# Altium footprint library Altium-RADIATOR.PcbLib: 1 footprints
Each footprint in its own frame and in the unit in brackets; x right, y up, seen from the top. Pads: shape width x height; smd on the part's side, far side on the other; paste and mask are expansions set on the pad; w line width, h text height; cw(c..) or ccw(c..) is an arc to the next point about the centre after c.
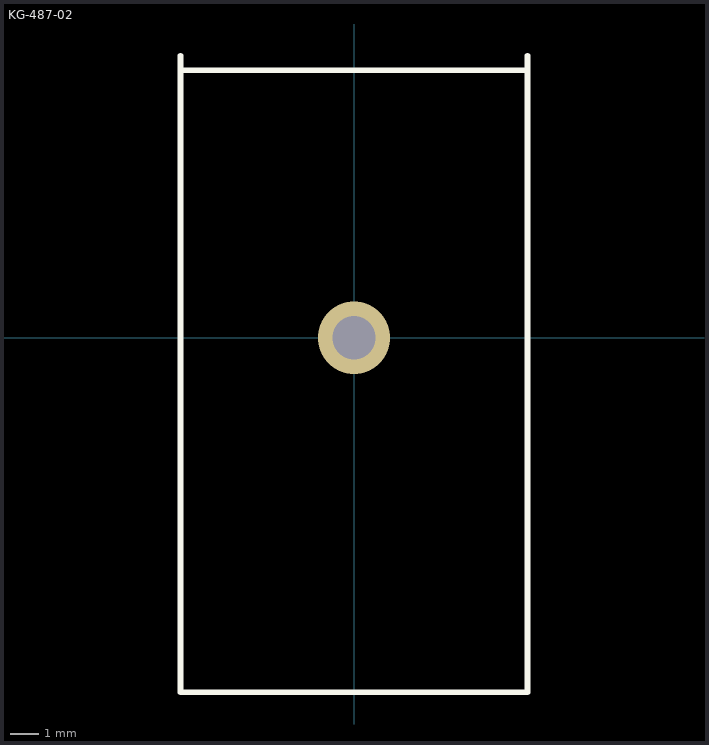
[diagram p0: the footprint, top view; thin cyan lines are the x and y axes]

## KG-487-02 [mm]
height 15
via 0,0 diameter 2.5 hole 1.5
Top Overlay:
  lines w0.2: -6,9.25 6,9.25 ; -6,9.75 -6,-12.25 6,-12.25 6,9.75